# Altium footprint library O_JonF_DaveL.PcbLib: 331 footprints (part 9 of 21)
Each footprint in its own frame and in the unit in brackets; x right, y up, seen from the top. Pads: shape width x height; smd on the part's side, far side on the other; paste and mask are expansions set on the pad; w line width, h text height; cw(c..) or ccw(c..) is an arc to the next point about the centre after c.
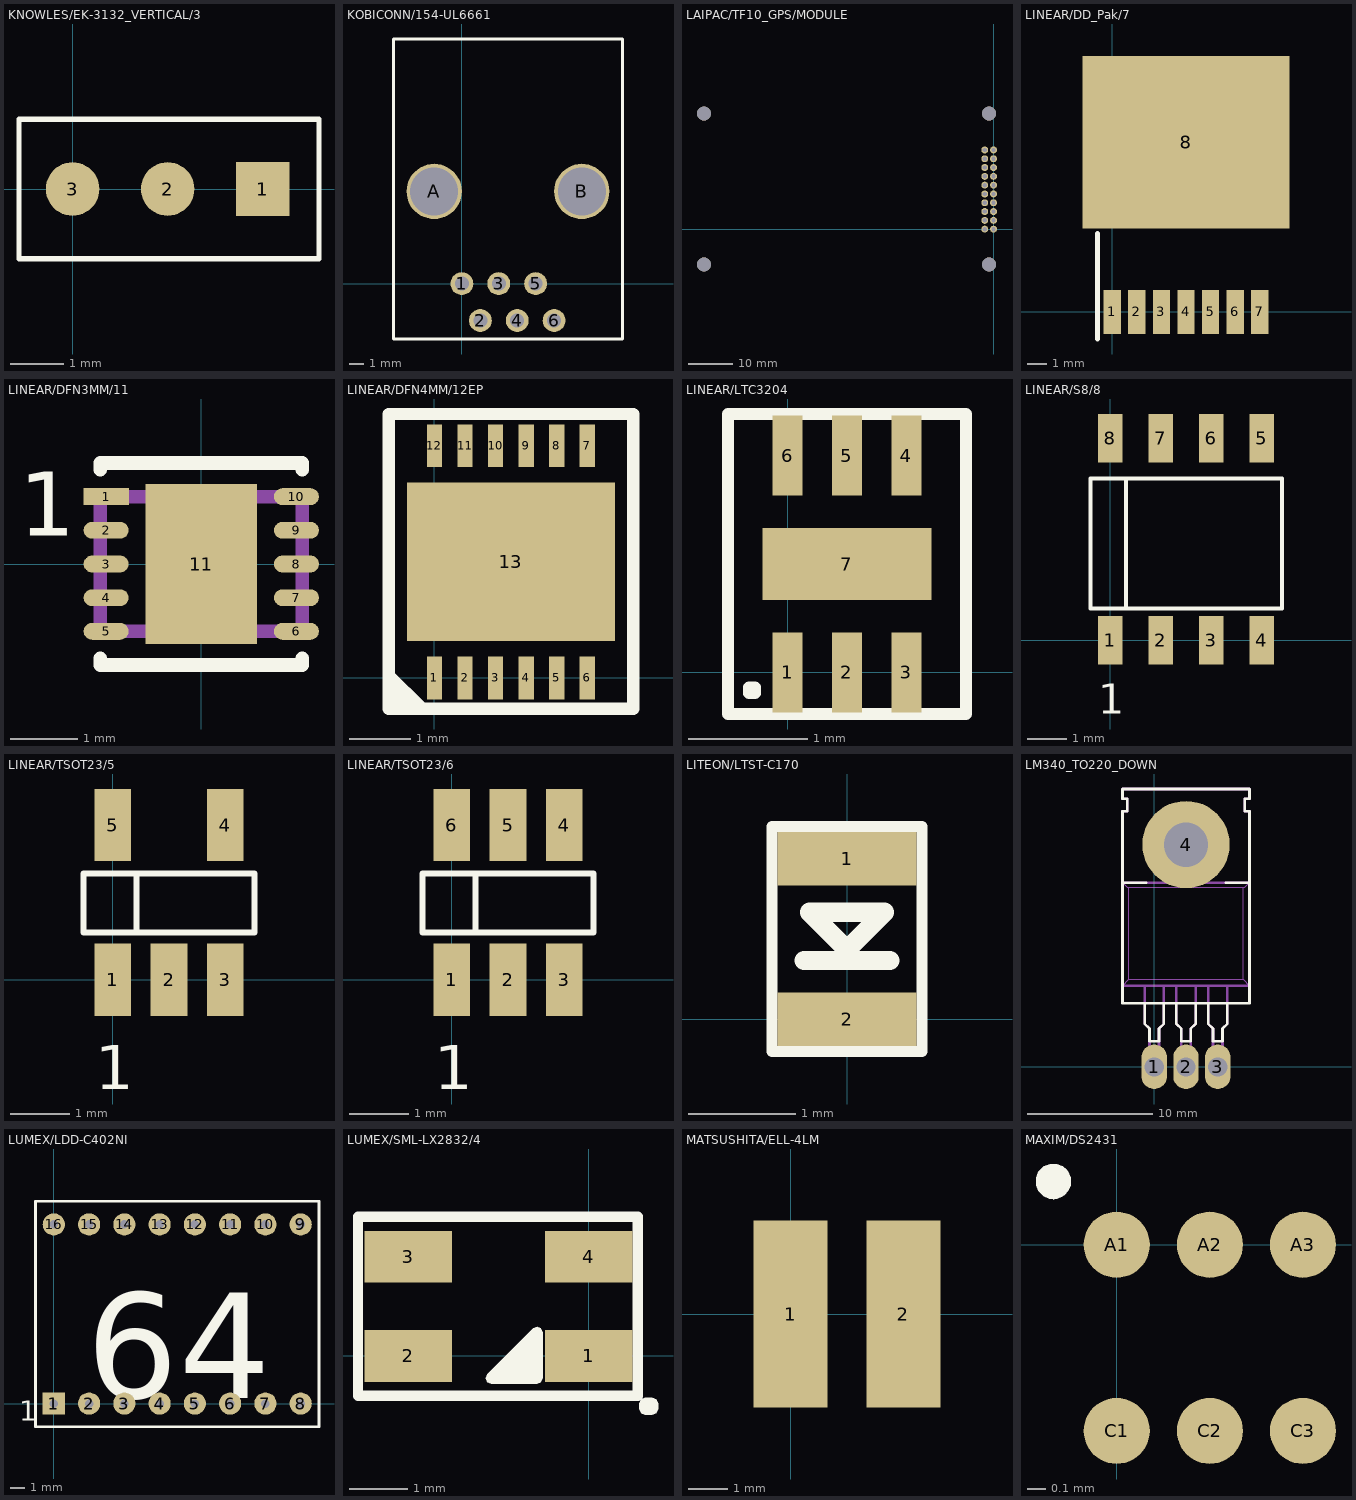
[diagram p8: the footprints below, top view; thin cyan lines are the x and y axes]

## KNOWLES/EK-3132_VERTICAL/3 [mm]
pads (3):
  rect 1x1 smd: 1(3.55,0)
  round 1 smd: 2(1.775,0) 3(0,0)
Top Overlay:
  lines w0.1: -1,-1.3 4.6,-1.3 4.6,1.3 -1,1.3 -1,-1.3
  text ".Designator" at 0,9 h1.5
Mechanical 1:
  text "MIC FACES THIS SIDE" at -5,-3 h0.75
  text ".Designator" at 0,9 h1.5
  text ".Comment" at 0,6 h1.5
  text ".Pattern" at 0,2 h1.5

## KOBICONN/154-UL6661 [mil]
pads (8):
  round 62 hole 38: 1(0,0) 2(50,-100) 3(100,0) 4(150,-100) 5(200,0) 6(250,-100)
  round 150 hole 130: A(-75,250) B(325,250)
Top Overlay:
  lines w8: -185,-150 435,-150 435,663 -185,663 -185,-150
  text ".Designator" at -185,-242.5 h56.25
Mechanical 1:
  text ".Comment" at 0,225 h56.25
  text ".Pattern" at 0,0 h56.25
  text ".Designator" at 0,337.5 h56.25

## LAIPAC/TF10_GPS/MODULE [mil]
pads (24):
  round 62 hole 38: 1(0,0) 2(-78.74,0) 3(0,78.74) 4(-78.74,78.74) 5(0,157.48) 6(-78.74,157.48) 7(0,236.22) 8(-78.74,236.22) 9(0,314.96) 10(-78.74,314.96) 11(0,393.7) 12(-78.74,393.7) 13(0,472.44) 14(-78.74,472.44) 15(0,551.18) 16(-78.74,551.18) 17(0,629.92) 18(-78.74,629.92) 19(0,708.66) 20(-78.74,708.66)
  round 125 hole 125: HOLE_1(-39.37,1034.45) HOLE_2(-39.37,-315.94) HOLE_3(-2590.55,1034.45) HOLE_4(-2590.55,-315.94)
Mechanical 2:
  text ".Pattern" at -1968.5,354.33 h59.06

## LINEAR/DD_Pak/7 [mil] "Linear Plastic DD Pak LTC DWG #05-08-1462"
height 177.17
pads (8):
  rect 35x90 smd: 1(0,0) 2(50,0) 3(100,0) 4(150,0) 5(200,0) 6(250,0) 7(300,0)
  rect 420x350 smd: 8(150,345)
Top Overlay:
  lines w10: -30,-55 -30,160

## LINEAR/DFN3MM/11 [mil]
pads (11):
  rect 26.57x9.83 smd: 1(-55.58,39.37)
  oval 26.37x9.83 smd: 2(-55.58,19.68) 3(-55.58,0) 4(-55.58,-19.68) 5(-55.58,-39.37) 6(55.58,-39.37) 7(55.58,-19.68) 8(55.58,0) 9(55.58,19.68) 10(55.58,39.37)
  rect 64.97x93.7 smd: 11(0,0)
Top Overlay:
  lines w8: -59.05,-55.12 -59.05,-59.05 59.05,-59.05 59.05,-55.12 ; -59.05,55.12 -59.05,59.05 59.05,59.05 59.05,55.12
  text ".Designator" at -100.03,70.4 h37.5
  text "1" at -106.52,16.4 h37.5
Mechanical 1:
  lines w8: -59.05,-39.37 59.05,-39.37 59.05,39.37 -59.05,39.37 -59.05,-39.37
  text ".Designator" at -85.48,-30.33 h37.5
  text "1" at -106.92,16.4 h37.5
  text ".Comment" at -81.52,-126.22 h37.5

## LINEAR/DFN4MM/12EP [mm]
pads (13):
  rect 0.25x0.7 smd: 1(0,0) 2(0.5,0) 3(1,0) 4(1.5,0) 5(2,0) 6(2.5,0) 7(2.5,3.8) 8(2,3.8) 9(1.5,3.8) 10(1,3.8) 11(0.5,3.8) 12(0,3.8)
  rect 3.4x2.6 smd: 13(1.25,1.9)
Top Overlay:
  region: -0.704,0.135 -0.119,-0.45 -0.095,-0.508 -0.119,-0.566 -0.178,-0.59 -0.762,-0.59 -0.82,-0.566 -0.844,-0.508 -0.844,0.076 -0.82,0.135 -0.762,0.159
  lines w0.203: -0.75,-0.508 -0.75,4.318 3.25,4.318 3.25,-0.508 -0.75,-0.508
  text ".Designator" at -0.813,4.555 h0.57
Top Paste:
  region: 2.598,2.7 2.622,2.642 2.622,2.261 2.598,2.202 2.54,2.178 2.134,2.178 2.075,2.202 2.051,2.261 2.051,2.642 2.075,2.7 2.134,2.724 2.54,2.724
  region: 2.598,1.532 2.622,1.473 2.622,1.092 2.598,1.034 2.54,1.01 2.134,1.01 2.075,1.034 2.051,1.092 2.051,1.473 2.075,1.532 2.134,1.556 2.54,1.556
  region: 1.557,1.557 1.581,1.499 1.581,1.118 1.557,1.059 1.499,1.035 1.092,1.035 1.034,1.059 1.01,1.118 1.01,1.499 1.034,1.557 1.092,1.581 1.499,1.581
  region: 1.557,2.675 1.581,2.616 1.581,2.235 1.557,2.177 1.499,2.153 1.092,2.153 1.034,2.177 1.01,2.235 1.01,2.616 1.034,2.675 1.092,2.699 1.499,2.699
  region: 0.541,1.582 0.565,1.524 0.565,1.143 0.541,1.085 0.483,1.061 0.076,1.061 0.018,1.085 -0.006,1.143 -0.006,1.524 0.018,1.582 0.076,1.606 0.483,1.606
  region: 0.516,2.7 0.54,2.642 0.54,2.261 0.516,2.202 0.457,2.178 0.051,2.178 -0.008,2.202 -0.032,2.261 -0.032,2.642 -0.008,2.7 0.051,2.724 0.457,2.724

## LINEAR/LTC3204 [mm]
pads (7):
  rect 0.25x0.675 smd: 1(0,0) 2(0.5,0) 3(1,0) 4(1,1.825) 5(0.5,1.825) 6(0,1.825)
  rect 1.42x0.61 smd: 7(0.5,0.913)
Top Overlay:
  lines w0.1: -0.5,-0.35 1.5,-0.35 1.5,2.175 -0.5,2.175 -0.5,-0.35 ; -0.325,-0.175 -0.275,-0.175 -0.275,-0.125 -0.325,-0.125 -0.325,-0.175
  text ".Designator" at 0,9 h1.5
Mechanical 1:
  text ".Designator" at 0,9 h1.5
  text ".Comment" at 0,6 h1.5
  text ".Pattern" at 0,0 h1.5

## LINEAR/S8/8 [mil]
pads (8):
  rect 24.4x48 smd: 1(0,0) 2(50,0) 3(100,0) 4(150,0) 5(150,200) 6(100,200) 7(50,200) 8(0,200)
Top Overlay:
  lines w3.93: 15.73,31.48 15.73,160 ; -19.68,31.48 170,31.48 170,160 -19.68,160 -19.68,31.48
  text "1" at -11.8,-72.83 h29.52
  text "." at -9.83,29.52 h29.52
  text ".Designator" at -14.9,27.63 h59.05
Mechanical 1:
  text ".Pattern" at -39.37,-157.47 h59.05
  text ".Designator" at 326.38,-327.37 h59.05
  text ".Comment" at -39.37,-324.8 h59.05

## LINEAR/TSOT23/5 [mm]
pads (5):
  rect 0.62x1.22 smd: 1(0,0) 2(0.95,0) 3(1.9,0) 4(1.9,2.62) 5(0,2.62)
Top Overlay:
  lines w0.1: 0.4,0.8 0.4,1.8 ; -0.5,0.8 2.4,0.8 2.4,1.8 -0.5,1.8 -0.5,0.8
  text "1" at -0.3,-1.85 h0.75
  text "." at -0.25,0.75 h0.75
  text ".Designator" at -0.6,3.75 h0.95
Mechanical 1:
  text ".Designator" at -0.6,3.75 h0.95
  text ".Comment" at -1,-8.25 h0.95
  text ".Pattern" at -1,-4 h0.95

## LINEAR/TSOT23/6 [mm]
pads (6):
  rect 0.62x1.22 smd: 1(0,0) 2(0.95,0) 3(1.9,0) 4(1.9,2.62) 5(0.95,2.62) 6(0,2.62)
Top Overlay:
  lines w0.1: 0.4,0.8 0.4,1.8 ; -0.5,0.8 -0.5,1.8 2.4,1.8 2.4,0.8 -0.5,0.8
  text ".Designator" at -0.6,3.75 h1.5
  text "." at -0.25,0.75 h0.75
  text "1" at -0.3,-1.85 h0.75
Mechanical 1:
  text ".Pattern" at -1,-4 h1.5
  text ".Comment" at -1,-8.25 h1.5
  text ".Designator" at -0.6,3.75 h1.5

## LITEON/LTST-C170 [mm]
pads (2):
  rect 1.3x0.5 smd: 1(0,1.5) 2(0,0)
Top Overlay:
  lines w0.1: -0.7,-0.3 0.7,-0.3 0.7,1.8 -0.7,1.8 -0.7,-0.3
  lines w0.18: -0.4,0.55 0.4,0.55 ; -0.35,1 0.35,1 0,0.65 -0.35,1
  text ".Designator" at -0.7,1.75 h0.75
Mechanical 1:
  text ".Designator" at 0,9 h1.5
  text ".Comment" at 0,6 h1.5
  text ".Pattern" at 0,0 h1.5

## LM340_TO220_DOWN [mil]
pads (4):
  shape4 80x140 / inner round 85 / far side shape4 80x140 hole 60: 1(0,0) 2(100,0) 3(200,0)
  round 275 hole 140: 4(100,700)
Top Overlay:
  lines w8: -100,580 -25,580 ; 225,580 300,580 ; -100,200 -100,805 -85,805 -85,845 -100,845 -100,875 300,875 300,845 285,845 285,805 300,805 300,200 -100,200 ; -30,135 -30,200 30,200 30,135 15,120 15,80 -15,80 -15,120 -30,135 ; 70,135 70,200 130,200 130,135 115,120 115,80 85,80 85,120 70,135 ; 170,135 170,200 230,200 230,135 215,120 215,80 185,80 185,120 170,135
  text ".Designator" at -205,67.5 h37.5
Mechanical 1:
  circle w8: c100,700 r85
  lines w3: -80,275 -80,565 280,565 280,275 ; -80,275 280,275 ; -80,275 -100,255 300,255 280,275 ; -80,275 280,275 ; -100,580 300,580 285,565 -85,565 -100,580
  lines w8: -100,255 -100,805 -85,805 -85,845 -100,845 -100,875 300,875 300,845 285,845 285,805 300,805 300,255 ; -100,255 300,255 ; -100,255 300,255 ; -100,255 -100,580 300,580 300,255 ; -30,135 -30,255 30,255 30,135 15,120 15,0 -15,0 -15,120 -30,135 ; 70,135 70,255 130,255 130,135 115,120 115,0 85,0 85,120 70,135 ; 170,135 185,120 185,0 215,0 215,120 230,135 230,255 170,255 170,135
  text ".Comment" at -30,407.5 h37.5
  text ".Pattern" at -30,307.5 h37.5
  text ".Designator" at -30,457.5 h37.5
Mechanical 3:
  text "JW" at -35,-30 h37.5

## LUMEX/LDD-C402NI [mil]
pads (16):
  rect 62x62 / inner round 62.01 / far side rect 62x62 hole 23.62: 1(0,0)
  round 62 / inner round 62.01 / far side round 62 hole 23.62: 2(98.43,0) 3(196.85,0) 4(295.28,0) 5(393.7,0) 6(492.13,0) 7(590.55,0) 8(688.98,0) 9(688.98,500) 10(590.55,500) 11(492.13,500) 12(393.7,500) 13(295.28,500) 14(196.85,500) 15(98.43,500) 16(0,500)
Top Overlay:
  lines w7.87: -51.18,-64.96 740.16,-64.96 740.16,564.96 -51.18,564.96 -51.18,-64.96
  text "64" at 90.94,14.96 h295.28
  text "1" at -97.24,-48.03 h56.25
  text ".Designator" at -52.36,-188.58 h59.06
Mechanical 1:
  text ".Pattern" at -26.77,-429.92 h59.06
  text ".Designator" at -36.61,-186.61 h59.06
  text ".Comment" at -47.24,-258.66 h59.06

## LUMEX/SML-LX2832/4 [mil]
pads (4):
  rect 59x35 smd: 1(0,0) 2(-122,0) 3(-122,67) 4(0,67)
Top Overlay:
  region: 45.68,-29.32 46.79,-32 46.79,-36 45.68,-38.68 43,-39.79 38,-39.79 35.32,-38.68 34.21,-36 34.21,-32 35.32,-29.32 38,-28.21 43,-28.21
  region: -32.32,18.68 -31.21,16 -31.21,-15 -32.32,-17.68 -35,-18.79 -66,-18.79 -68.68,-17.68 -69.79,-15 -68.68,-12.32 -37.68,18.68 -35,19.79
  lines w7: -156,-27 -156,94 33,94 33,-27 -156,-27
  text ".Designator" at -155,99.5 h30
Mechanical 1:
  text ".Pattern" at 0,0 h56.25
  text ".Designator" at 0,337.5 h30
  text ".Comment" at 0,225 h56.25

## MATSUSHITA/ELL-4LM [mm]
pads (2):
  rect 1.9x4.8 smd: 1(0,0) 2(2.9,0)
Top Overlay:
  text ".Designator" at 0,9 h1.5
Mechanical 1:
  text ".Pattern" at 0,0 h1.5
  text ".Comment" at 0,6 h1.5
  text ".Designator" at 0,9 h1.5

## MAXIM/DS2431 [mm]
pads (6):
  round 0.355 smd: A1(0,0) A2(0.5,0) A3(1,0) C1(0,-1) C2(0.5,-1) C3(1,-1)
Top Overlay:
  region: -0.289,0.421 -0.269,0.401 -0.259,0.391 -0.247,0.361 -0.247,0.319 -0.259,0.289 -0.279,0.269 -0.289,0.259 -0.319,0.247 -0.33,0.247 -0.34,0.243 -0.341,0.243 -0.342,0.243 -0.35,0.247 -0.361,0.247 -0.391,0.259 -0.421,0.289 -0.433,0.319 -0.433,0.361 -0.421,0.391 -0.401,0.411 -0.391,0.421 -0.361,0.433 -0.319,0.433
  text ".Designator" at -0.495,0.25 h1.5
Mechanical 1:
  text ".Designator" at 0,9 h1.5
  text ".Comment" at 0,6 h1.5
  text ".Pattern" at 0,0 h1.5